# EAGLE library part MCP2515 (library MCP2515)
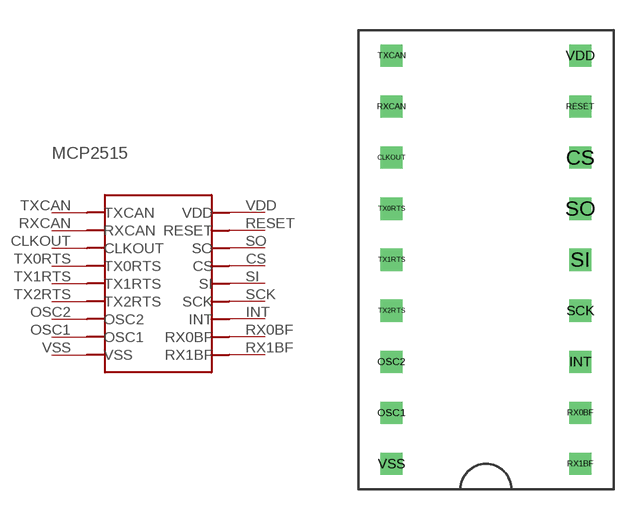
[diagram p0: symbol with the pads of MCP2515; footprint MCP2515]

Designator prefix MCP2515

## MCP2515  [MCP2515]
CLKOUT  CLKOUT
CS  CS
INT  INT
OSC1  OSC1
OSC2  OSC2
RESET  RESET
RX0BF  RX0BF
RX1BF  RX1BF
RXCAN  RXCAN
SCK  SCK
SI  SI
SO  SO
TX0RTS  TX0RTS
TX1RTS  TX1RTS
TX2RTS  TX2RTS
TXCAN  TXCAN
VDD  VDD
VSS  VSS

## Footprint MCP2515 (pad centres in mm)
drill 0.6 square: CLKOUT -4.7,5.08; CS 4.7,5.08; INT 4.7,-5.08; OSC1 -4.7,-7.62; OSC2 -4.7,-5.08; RESET 4.7,7.62; RX0BF 4.7,-7.62; RX1BF 4.7,-10.16; RXCAN -4.7,7.62; SCK 4.7,-2.54; SI 4.7,0; SO 4.7,2.54; TX0RTS -4.7,2.54; TX1RTS -4.7,0; TX2RTS -4.7,-2.54; TXCAN -4.7,10.16; VDD 4.7,10.16; VSS -4.7,-10.16